# Altium footprint library PCB - CONNECTOR - TE BNC right angle_1-1634624-0 .PCBLIB: 1 footprints
Each footprint in its own frame and in the unit in brackets; x right, y up, seen from the top. Pads: shape width x height; smd on the part's side, far side on the other; paste and mask are expansions set on the pad; w line width, h text height; cw(c..) or ccw(c..) is an arc to the next point about the centre after c.
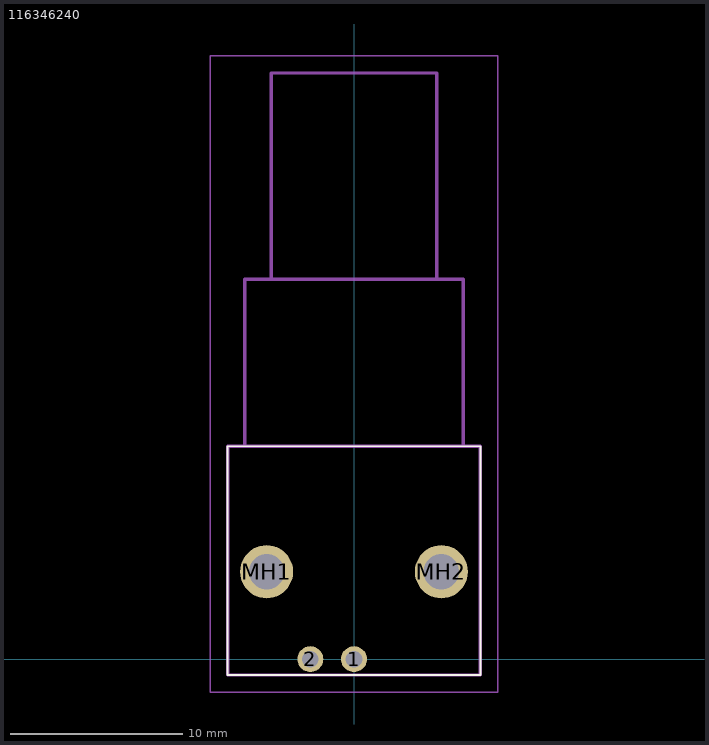
[diagram p0: the footprint, top view; thin cyan lines are the x and y axes]

## 116346240 [mm]
pads (4):
  round 1.509 hole 0.97: 1(0,0) 2(-2.54,0)
  round 3.09 hole 2.06: MH1(-5.08,5.08) MH2(5.08,5.08)
Top Overlay:
  lines w0.1: -7.35,-0.92 7.35,-0.92 7.35,12.38 -7.35,12.38 -7.35,-0.92
Top Assembly:
  lines w0.2: -7.35,-0.92 7.35,-0.92 7.35,12.38 -7.35,12.38 -7.35,-0.92 ; -6.35,12.38 6.35,12.38 6.35,22.08 -6.35,22.08 -6.35,12.38 ; -4.8,22.08 4.8,22.08 4.8,34.08 -4.8,34.08 -4.8,22.08
Top Courtyard:
  lines w0.1: -8.35,-1.92 8.35,-1.92 8.35,35.08 -8.35,35.08 -8.35,-1.92
Top Designator:
  text ".Designator" at -2.633,10.315 h1
Top Value (Mech13):
  text ".Comment" at -2.526,8.824 h1
3D body "1-1634624-0.stp": height 12.94, standoff -4.52, extent -7.35,-1.95 7.35,33.55